# Altium footprint library Antennas.PcbLib: 16 footprints
Each footprint in its own frame and in the unit in brackets; x right, y up, seen from the top. Pads: shape width x height; smd on the part's side, far side on the other; paste and mask are expansions set on the pad; w line width, h text height; cw(c..) or ccw(c..) is an arc to the next point about the centre after c.
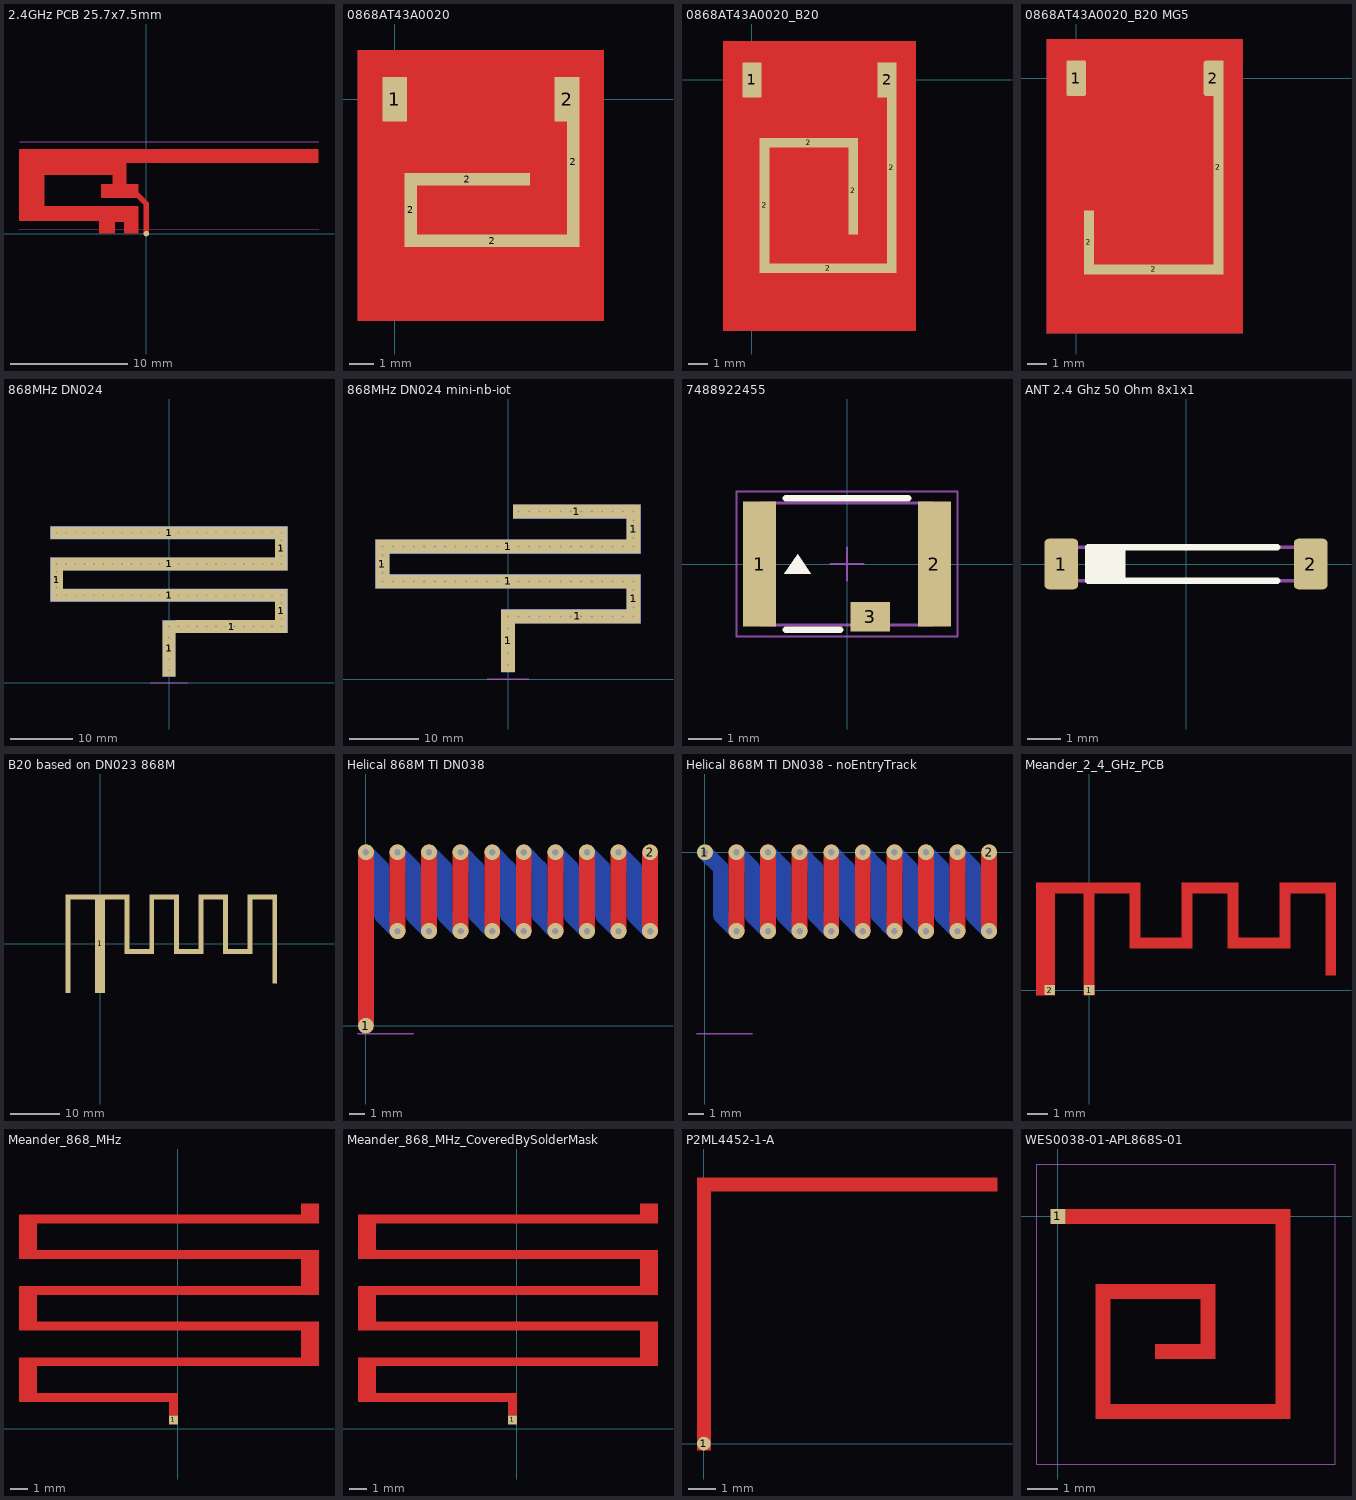
[diagram p0: the footprints below, top view; thin cyan lines are the x and y axes]

## 2.4GHz PCB 25.7x7.5mm [mm] "An Inverted F PCB antenna advised by Texas Instruments; +3.3dB; Design Note DN0007"
pads (1):
  round 0.46 smd: 1(0,0)
Top Layer:
  region: -10.736,7.103 14.589,7.103 14.589,6.128 -1.786,6.128 -1.786,4.153 -0.811,4.153 -0.811,3.128 -3.786,3.128 -3.786,4.153 -2.811,4.153 -2.811,5.128 -8.761,5.128 -8.761,2.278 -8.736,2.253 -0.686,2.253 -0.686,0.028 -1.886,0.028 -1.886,1.028 -2.686,1.028 -2.686,0.028 -4.036,0.028 -4.036,1.153 -10.736,1.153
  lines w0.2: -0.787,0.127 -0.787,2.261
  lines w0.203: -0.787,0.127 -1.787,0.127 -1.787,1.127 -2.787,1.127 -2.787,0.127 -3.937,0.127 -3.937,1.168 -10.236,1.194 -10.77,1.194 -10.77,7.137 14.63,7.137 14.63,6.127 -1.787,6.127 -1.787,4.127 -0.787,4.127 -0.787,3.127 -3.787,3.127 -3.787,4.127 -2.787,4.127 -2.787,5.127 -8.787,5.127 -8.787,2.261 -0.787,2.261
  lines w0.46: -0.854,3.375 0,2.521 0,0
Mechanical 13:
  lines w0.01: -10.886,0.347 14.764,0.353 ; -10.836,7.853 14.739,7.853
  text "Ground line" at -10.611,0.403 h0.1
  text "Board line" at -10.736,7.678 h0.1

## 0868AT43A0020 [mm] "868 MHz"
height 0.8
pads (6):
  rect 1x1.8 smd: 1(0,0) 2(7,0)
  rect 0.5x3 smd paste-5: 2(0.65,-4.5)
  rect 5.1x0.5 smd paste-5: 2(2.95,-3.25)
  rect 7.1x0.5 smd paste-5: 2(3.95,-5.75)
  rect 0.5x6.9 smd paste-5: 2(7.25,-2.55)
Top Layer:
  pour cut-out: 8.5,2 -1.5,2 -1.5,-9 8.5,-9
Bottom Layer:
  pour cut-out: -1.5,2 8.5,2 8.5,-9 -1.5,-9
3D body: height 0.8, standoff 0.6, extent 1.45,-0.212 2.8,0.213
3D body: height 0.8, standoff 0, extent 0,-1 0.5,1
3D body: height 0.8, standoff 0, extent 6.5,-1 7,1
3D body: height 0.75, standoff 0, extent 0.013,-0.981 6.975,0.981

## 0868AT43A0020_B20 [mm] "Antenna for LTE B20 and 868MHz"
height 0.8
pads (7):
  rect 1x1.8 smd: 1(0,0) 2(7,0)
  rect 0.5x7 smd paste-5: 2(0.65,-6.5)
  rect 5.1x0.5 smd paste-5: 2(2.95,-3.25)
  rect 7.1x0.5 smd paste-5: 2(3.95,-9.75)
  rect 0.5x4.5 smd paste-1 mask-1: 2(5.25,-5.75)
  rect 0.5x10.9 smd paste-5: 2(7.25,-4.55)
Top Layer:
  pour cut-out: 8.5,2 -1.5,2 -1.5,-13 8.5,-13
Bottom Layer:
  pour cut-out: -1.5,2 8.5,2 8.5,-13 -1.5,-13
Mechanical 15:
  lines w0.1: 3.2,0 3.8,0 ; 3.5,-0.3 3.5,0.3 ; -0.7,-1.1 7.7,-1.1 7.7,1.1 -0.7,1.1 -0.7,-1.1
3D body: height 0.8, standoff 0.6, extent 1.45,-0.212 2.8,0.213
3D body: height 0.8, standoff 0, extent 0,-1 0.5,1
3D body: height 0.8, standoff 0, extent 6.5,-1 7,1
3D body: height 0.75, standoff 0, extent 0.013,-0.981 6.975,0.981

## 0868AT43A0020_B20 MG5 [mm] "Antenna for LTE B20 and 868MHz"
height 0.8
pads (5):
  rrect15% 1x1.8 smd: 1(0,0)
  rect 0.5x3.25 smd paste-5: 2(0.65,-8.375)
  rect 7.1x0.5 smd paste-5: 2(3.95,-9.75)
  rrect25% 1x1.8 smd: 2(7,0)
  rect 0.5x10.9 smd paste-5: 2(7.25,-4.55)
Top Layer:
  pour cut-out: 8.5,2 -1.5,2 -1.5,-13 8.5,-13
Bottom Layer:
  pour cut-out: -1.5,2 8.5,2 8.5,-13 -1.5,-13
Mechanical 15:
  lines w0.1: 3.2,0 3.8,0 ; 3.5,-0.3 3.5,0.3 ; -0.7,-1.1 -0.7,1.1 7.7,1.1 7.7,-1.1 -0.7,-1.1
3D body: height 0.75, standoff 0, extent 0.013,-0.981 6.975,0.981
3D body: height 0.8, standoff 0, extent 6.5,-1 7,1
3D body: height 0.8, standoff 0, extent 0,-1 0.5,1
3D body: height 0.8, standoff 0.6, extent 1.45,-0.212 2.8,0.213

## 868MHz DN024 [mm] "868MHz wide band antenna 88MHz"
pads (16):
  rect 2x3 smd paste-1 mask-1: 1(-18,16.5) 1(18,11.5) 1(18,21.5)
  rect 2x3 smd far side paste-1 mask-1: 1(-18,16.5) 1(18,11.5) 1(18,21.5)
  rect 2x9 smd paste-1 mask-1: 1(0,5.5)
  rect 2x9 smd far side paste-1 mask-1: 1(0,5.5)
  rect 38x2 smd paste-1 mask-1: 1(0,14) 1(0,19) 1(0,24)
  rect 38x2 smd far side paste-1 mask-1: 1(0,14) 1(0,19) 1(0,24)
  rect 18x2 smd paste-1 mask-1: 1(10,9)
  rect 18x2 smd far side paste-1 mask-1: 1(10,9)
via 0,3.75 diameter 0.7 hole 0.3
via 0,7.25 diameter 0.7 hole 0.3
via 0,5.5 diameter 0.7 hole 0.3
via 18,10.25 diameter 0.7 hole 0.3
via 18,12.75 diameter 0.7 hole 0.3
via -18,15.25 diameter 0.7 hole 0.3
via -18,17.75 diameter 0.7 hole 0.3
via 18,20.25 diameter 0.7 hole 0.3
via 18,22.75 diameter 0.7 hole 0.3
via 18,11.5 diameter 0.7 hole 0.3
via -18,16.5 diameter 0.7 hole 0.3
via 18,21.5 diameter 0.7 hole 0.3
via 1.5,9 diameter 0.7 hole 0.3
via 3,9 diameter 0.7 hole 0.3
via 4.5,9 diameter 0.7 hole 0.3
via 6,9 diameter 0.7 hole 0.3
via 7.5,9 diameter 0.7 hole 0.3
via 9,9 diameter 0.7 hole 0.3
via 10.5,9 diameter 0.7 hole 0.3
via 12,9 diameter 0.7 hole 0.3
via 13.5,9 diameter 0.7 hole 0.3
via 15,9 diameter 0.7 hole 0.3
via 16.5,9 diameter 0.7 hole 0.3
via 16.5,14 diameter 0.7 hole 0.3
via 15,14 diameter 0.7 hole 0.3
via 13.5,14 diameter 0.7 hole 0.3
via 12,14 diameter 0.7 hole 0.3
via 10.5,14 diameter 0.7 hole 0.3
via 9,14 diameter 0.7 hole 0.3
via 7.5,14 diameter 0.7 hole 0.3
via 6,14 diameter 0.7 hole 0.3
via 4.5,14 diameter 0.7 hole 0.3
via 3,14 diameter 0.7 hole 0.3
via 1.5,14 diameter 0.7 hole 0.3
via 0,14 diameter 0.7 hole 0.3
via -1.5,14 diameter 0.7 hole 0.3
via -3,14 diameter 0.7 hole 0.3
via -4.5,14 diameter 0.7 hole 0.3
via -6,14 diameter 0.7 hole 0.3
via -7.5,14 diameter 0.7 hole 0.3
via -9,14 diameter 0.7 hole 0.3
via -10.5,14 diameter 0.7 hole 0.3
via -12,14 diameter 0.7 hole 0.3
via -13.5,14 diameter 0.7 hole 0.3
via -15,14 diameter 0.7 hole 0.3
via -16.5,14 diameter 0.7 hole 0.3
via 16.5,19 diameter 0.7 hole 0.3
via 15,19 diameter 0.7 hole 0.3
via 13.5,19 diameter 0.7 hole 0.3
via 12,19 diameter 0.7 hole 0.3
via 10.5,19 diameter 0.7 hole 0.3
via 9,19 diameter 0.7 hole 0.3
via 7.5,19 diameter 0.7 hole 0.3
via 6,19 diameter 0.7 hole 0.3
via 4.5,19 diameter 0.7 hole 0.3
via 3,19 diameter 0.7 hole 0.3
via 1.5,19 diameter 0.7 hole 0.3
via 0,19 diameter 0.7 hole 0.3
via -1.5,19 diameter 0.7 hole 0.3
via -3,19 diameter 0.7 hole 0.3
via -4.5,19 diameter 0.7 hole 0.3
via -6,19 diameter 0.7 hole 0.3
via -7.5,19 diameter 0.7 hole 0.3
via -9,19 diameter 0.7 hole 0.3
via -10.5,19 diameter 0.7 hole 0.3
via -12,19 diameter 0.7 hole 0.3
via -13.5,19 diameter 0.7 hole 0.3
via -15,19 diameter 0.7 hole 0.3
via -16.5,19 diameter 0.7 hole 0.3
via 16.5,24 diameter 0.7 hole 0.3
via 15,24 diameter 0.7 hole 0.3
via 13.5,24 diameter 0.7 hole 0.3
via 12,24 diameter 0.7 hole 0.3
via 10.5,24 diameter 0.7 hole 0.3
via 9,24 diameter 0.7 hole 0.3
via 7.5,24 diameter 0.7 hole 0.3
via 6,24 diameter 0.7 hole 0.3
via 4.5,24 diameter 0.7 hole 0.3
via 3,24 diameter 0.7 hole 0.3
via 1.5,24 diameter 0.7 hole 0.3
via 0,24 diameter 0.7 hole 0.3
via -1.5,24 diameter 0.7 hole 0.3
via -3,24 diameter 0.7 hole 0.3
via -4.5,24 diameter 0.7 hole 0.3
via -6,24 diameter 0.7 hole 0.3
via -7.5,24 diameter 0.7 hole 0.3
via -9,24 diameter 0.7 hole 0.3
via -10.5,24 diameter 0.7 hole 0.3
via -12,24 diameter 0.7 hole 0.3
via -13.5,24 diameter 0.7 hole 0.3
via -15,24 diameter 0.7 hole 0.3
via -16.5,24 diameter 0.7 hole 0.3
via 0,2 diameter 0.7 hole 0.3
via -18,24 diameter 0.7 hole 0.3
via 18,24 diameter 0.7 hole 0.3
via 18,19 diameter 0.7 hole 0.3
via -18,19 diameter 0.7 hole 0.3
via -18,14 diameter 0.7 hole 0.3
via 18,14 diameter 0.7 hole 0.3
via 18,9 diameter 0.7 hole 0.3
via 0,9 diameter 0.7 hole 0.3
Mechanical 13:
  lines w0.2: -3,0 3,0
  text "gnd edge" at 2,1 h0.6

## 868MHz DN024 mini-nb-iot [mm] "868MHz wide band antenna 88MHz, cut for mini-nb-iot device"
pads (16):
  rect 2x3 smd paste-1 mask-1: 1(-18,16.5) 1(18,11.5) 1(18,21.5)
  rect 2x3 smd far side paste-1 mask-1: 1(-18,16.5) 1(18,11.5) 1(18,21.5)
  rect 2x9 smd paste-1 mask-1: 1(0,5.5)
  rect 2x9 smd far side paste-1 mask-1: 1(0,5.5)
  rect 38x2 smd paste-1 mask-1: 1(0,14) 1(0,19)
  rect 38x2 smd far side paste-1 mask-1: 1(0,14) 1(0,19)
  rect 18.25x2 smd paste-1 mask-1: 1(9.875,24)
  rect 18.25x2 smd far side paste-1 mask-1: 1(9.875,24)
  rect 18x2 smd paste-1 mask-1: 1(10,9)
  rect 18x2 smd far side paste-1 mask-1: 1(10,9)
via 0,9 diameter 0.7 hole 0.3
via 18,9 diameter 0.7 hole 0.3
via 18,14 diameter 0.7 hole 0.3
via -18,14 diameter 0.7 hole 0.3
via -18,19 diameter 0.7 hole 0.3
via 18,19 diameter 0.7 hole 0.3
via 18,24 diameter 0.7 hole 0.3
via 0,2 diameter 0.7 hole 0.3
via 1.5,24 diameter 0.7 hole 0.3
via 3,24 diameter 0.7 hole 0.3
via 4.5,24 diameter 0.7 hole 0.3
via 6,24 diameter 0.7 hole 0.3
via 7.5,24 diameter 0.7 hole 0.3
via 9,24 diameter 0.7 hole 0.3
via 10.5,24 diameter 0.7 hole 0.3
via 12,24 diameter 0.7 hole 0.3
via 13.5,24 diameter 0.7 hole 0.3
via 15,24 diameter 0.7 hole 0.3
via 16.5,24 diameter 0.7 hole 0.3
via -16.5,19 diameter 0.7 hole 0.3
via -15,19 diameter 0.7 hole 0.3
via -13.5,19 diameter 0.7 hole 0.3
via -12,19 diameter 0.7 hole 0.3
via -10.5,19 diameter 0.7 hole 0.3
via -9,19 diameter 0.7 hole 0.3
via -7.5,19 diameter 0.7 hole 0.3
via -6,19 diameter 0.7 hole 0.3
via -4.5,19 diameter 0.7 hole 0.3
via -3,19 diameter 0.7 hole 0.3
via -1.5,19 diameter 0.7 hole 0.3
via 0,19 diameter 0.7 hole 0.3
via 1.5,19 diameter 0.7 hole 0.3
via 3,19 diameter 0.7 hole 0.3
via 4.5,19 diameter 0.7 hole 0.3
via 6,19 diameter 0.7 hole 0.3
via 7.5,19 diameter 0.7 hole 0.3
via 9,19 diameter 0.7 hole 0.3
via 10.5,19 diameter 0.7 hole 0.3
via 12,19 diameter 0.7 hole 0.3
via 13.5,19 diameter 0.7 hole 0.3
via 15,19 diameter 0.7 hole 0.3
via 16.5,19 diameter 0.7 hole 0.3
via -16.5,14 diameter 0.7 hole 0.3
via -15,14 diameter 0.7 hole 0.3
via -13.5,14 diameter 0.7 hole 0.3
via -12,14 diameter 0.7 hole 0.3
via -10.5,14 diameter 0.7 hole 0.3
via -9,14 diameter 0.7 hole 0.3
via -7.5,14 diameter 0.7 hole 0.3
via -6,14 diameter 0.7 hole 0.3
via -4.5,14 diameter 0.7 hole 0.3
via -3,14 diameter 0.7 hole 0.3
via -1.5,14 diameter 0.7 hole 0.3
via 0,14 diameter 0.7 hole 0.3
via 1.5,14 diameter 0.7 hole 0.3
via 3,14 diameter 0.7 hole 0.3
via 4.5,14 diameter 0.7 hole 0.3
via 6,14 diameter 0.7 hole 0.3
via 7.5,14 diameter 0.7 hole 0.3
via 9,14 diameter 0.7 hole 0.3
via 10.5,14 diameter 0.7 hole 0.3
via 12,14 diameter 0.7 hole 0.3
via 13.5,14 diameter 0.7 hole 0.3
via 15,14 diameter 0.7 hole 0.3
via 16.5,14 diameter 0.7 hole 0.3
via 16.5,9 diameter 0.7 hole 0.3
via 15,9 diameter 0.7 hole 0.3
via 13.5,9 diameter 0.7 hole 0.3
via 12,9 diameter 0.7 hole 0.3
via 10.5,9 diameter 0.7 hole 0.3
via 9,9 diameter 0.7 hole 0.3
via 7.5,9 diameter 0.7 hole 0.3
via 6,9 diameter 0.7 hole 0.3
via 4.5,9 diameter 0.7 hole 0.3
via 3,9 diameter 0.7 hole 0.3
via 1.5,9 diameter 0.7 hole 0.3
via 18,21.5 diameter 0.7 hole 0.3
via -18,16.5 diameter 0.7 hole 0.3
via 18,11.5 diameter 0.7 hole 0.3
via 18,22.75 diameter 0.7 hole 0.3
via 18,20.25 diameter 0.7 hole 0.3
via -18,17.75 diameter 0.7 hole 0.3
via -18,15.25 diameter 0.7 hole 0.3
via 18,12.75 diameter 0.7 hole 0.3
via 18,10.25 diameter 0.7 hole 0.3
via 0,5.5 diameter 0.7 hole 0.3
via 0,7.25 diameter 0.7 hole 0.3
via 0,3.75 diameter 0.7 hole 0.3
Mechanical 13:
  lines w0.2: -3,0 3,0
  text "gnd edge" at 2,1 h0.6

## 7488922455 [mm] "Chip antenna 2.4 and 5GHz AC"
height 0.7
pads (3):
  rect 1x3.8 smd: 1(-2.65,0) 2(2.65,0)
  rect 1.2x0.9 smd: 3(0.7,-1.6)
Top Overlay:
  region: -1.5,0.3 -1.9,-0.3 -1.1,-0.3
  lines w0.2: -1.85,-2 -0.2,-2 ; -1.85,2 1.85,2
Mechanical 11:
  region: -1.5,0.3 -1.9,-0.3 -1.1,-0.3
  lines w0.1: -2.6,-1.85 -2.6,1.85 2.6,1.85 2.6,-1.85 -2.6,-1.85
Mechanical 13:
  region: -1.5,0.3 -1.9,-0.3 -1.1,-0.3
  lines w0.1: -2.6,-1.85 2.6,-1.85 2.6,1.85 -2.6,1.85 -2.6,-1.85
Mechanical 15:
  lines w0.05: -0.5,0 0.5,0 ; 0,-0.5 0,0.5 ; -3.35,-2.2 -3.35,2.2 3.35,2.2 3.35,-2.2 -3.35,-2.2
3D body: height 0.7, standoff 0, extent -2.6,-1.85 2.6,1.85

## ANT 2.4 Ghz 50 Ohm 8x1x1 [mm] "ANT 2.4 Ghz 50 Ohm 8x1x1"
height 1
pads (2):
  rrect25% 1x1.5 smd: 1(-3.7,0) 2(3.7,0)
Top Overlay:
  lines w0.2: -2.9,-0.3 -1.9,-0.3 ; -2.9,-0.1 -1.9,-0.1 ; -2.9,0.1 -1.9,0.1 ; -2.9,0.3 -1.9,0.3 ; -2.7,-0.5 2.7,-0.5 ; -2.7,0.5 2.7,0.5 ; -2.9,-0.5 -1.9,-0.5 -1.9,0.5 -2.9,0.5 -2.9,-0.5
Mechanical 15:
  lines w0.1: -4,-0.5 -4,0.5 4,0.5 4,-0.5 -4,-0.5
3D body: height 1, standoff 0, extent -4,-0.5 4,0.5

## B20 based on DN023 868M [mm] "B20 based on DN023 868M"
pads (17):
  rect 5x1 smd paste-1 mask-1: 1(-3.5,9.5)
  rect 2x20 smd paste-1 mask-1: 1(0,0)
  rect 4x1 smd paste-1 mask-1: 1(3,9.5) 1(8,-1.5) 1(13,9.5) 1(18,-1.5) 1(23,9.5) 1(28,-1.5) 1(33,9.5)
  rect 1x12 smd paste-1 mask-1: 1(5.5,4) 1(10.5,4) 1(15.5,4) 1(20.5,4) 1(25.5,4) 1(30.5,4)
  rect 1x18 smd paste-1 mask-1: 1(35.5,1)
  rect 1x20 smd paste-1 mask-1: 2(-6.5,0)

## Helical 868M TI DN038 [mm]
pads (2):
  round 1 smd paste-1: 1(0,0) 2(18,11)
via 8,6 diameter 1 hole 0.4
via 10,6 diameter 1 hole 0.4
via 12,6 diameter 1 hole 0.4
via 14,6 diameter 1 hole 0.4
via 16,6 diameter 1 hole 0.4
via 18,6 diameter 1 hole 0.4
via 16,11 diameter 1 hole 0.4
via 14,11 diameter 1 hole 0.4
via 12,11 diameter 1 hole 0.4
via 10,11 diameter 1 hole 0.4
via 8,11 diameter 1 hole 0.4
via 6,11 diameter 1 hole 0.4
via 6,6 diameter 1 hole 0.4
via 4,11 diameter 1 hole 0.4
via 4,6 diameter 1 hole 0.4
via 2,11 diameter 1 hole 0.4
via 2,6 diameter 1 hole 0.4
via 0,11 diameter 1 hole 0.4
Top Layer:
  lines w1: 0,0 0,11 ; 2,6 2,11 ; 4,6 4,11 ; 6,6 6,11 ; 8,6 8,11 ; 10,6 10,11 ; 12,6 12,11 ; 14,6 14,11 ; 16,6 16,11 ; 18,6 18,11
Bottom Layer:
  lines w1: 0,11 1,10 1,7 2,6 ; 4,6 3,7 3,10 2,11 ; 4,11 5,10 5,7 6,6 ; 6,11 7,10 7,7 8,6 ; 8,11 9,10 9,7 10,6 ; 10,11 11,10 11,7 12,6 ; 12,11 13,10 13,7 14,6 ; 14,11 15,10 15,7 16,6 ; 16,11 17,10 17,7 18,6 ; 2,11 2,11
Mechanical 13:
  lines w0.1: -0.5,-0.5 3,-0.5
  text "GND edge" at 1,0 h0.6

## Helical 868M TI DN038 - noEntryTrack [mm]
pads (2):
  round 1 smd paste-1: 1(0,0) 2(18,0)
via 0,0 diameter 1 hole 0.4
via 2,-5 diameter 1 hole 0.4
via 2,0 diameter 1 hole 0.4
via 4,-5 diameter 1 hole 0.4
via 4,0 diameter 1 hole 0.4
via 6,-5 diameter 1 hole 0.4
via 6,0 diameter 1 hole 0.4
via 8,0 diameter 1 hole 0.4
via 10,0 diameter 1 hole 0.4
via 12,0 diameter 1 hole 0.4
via 14,0 diameter 1 hole 0.4
via 16,0 diameter 1 hole 0.4
via 18,-5 diameter 1 hole 0.4
via 16,-5 diameter 1 hole 0.4
via 14,-5 diameter 1 hole 0.4
via 12,-5 diameter 1 hole 0.4
via 10,-5 diameter 1 hole 0.4
via 8,-5 diameter 1 hole 0.4
Top Layer:
  lines w1: 2,-5 2,0 ; 4,-5 4,0 ; 6,-5 6,0 ; 8,-5 8,0 ; 10,-5 10,0 ; 12,-5 12,0 ; 14,-5 14,0 ; 16,-5 16,0 ; 18,-5 18,0
Bottom Layer:
  lines w1: 0,0 1,-1 1,-4 2,-5 ; 4,-5 3,-4 3,-1 2,0 ; 4,0 5,-1 5,-4 6,-5 ; 6,0 7,-1 7,-4 8,-5 ; 8,0 9,-1 9,-4 10,-5 ; 10,0 11,-1 11,-4 12,-5 ; 12,0 13,-1 13,-4 14,-5 ; 14,0 15,-1 15,-4 16,-5 ; 16,0 17,-1 17,-4 18,-5 ; 2,0 2,0
Mechanical 13:
  lines w0.1: -0.5,-11.5 3,-11.5
  text "GND edge" at 1,-11 h0.6

## Meander_2_4_GHz_PCB [mm]
pads (2):
  rect 0.5x0.5 smd: 1(0,0) 2(-1.9,0)
Top Layer:
  region: 0.25,-0.25 0.25,4.65 1.95,4.65 1.95,2.01 4.95,2.01 4.95,4.65 6.65,4.65 6.65,2.01 9.65,2.01 9.65,4.65 11.35,4.65 11.35,0.71 11.85,0.71 11.85,5.15 9.15,5.15 9.15,2.51 7.15,2.51 7.15,5.15 4.45,5.15 4.45,2.51 2.45,2.51 2.45,5.15 -2.55,5.15 -2.55,-0.25 -1.65,-0.25 -1.65,4.65 -0.25,4.65 -0.25,-0.25

## Meander_868_MHz [mm] "Meander_868_MHz"
pads (1):
  rect 0.5x0.5 smd: 1(-0.25,0.5)
Top Layer:
  rectangle: -0.5,0.75 0,2
  rectangle: -8.9,1.5 0,2
  rectangle: -8.9,1.5 -7.9,4
  rectangle: -8.9,3.5 7.9,4
  rectangle: 6.9,3.5 7.9,6
  rectangle: -8.9,5.5 7.8,6
  rectangle: -8.9,7.5 7.9,8
  rectangle: -8.9,9.5 7.9,10
  rectangle: -8.9,11.5 7.9,12
  rectangle: -8.9,5.5 -7.9,8
  rectangle: 6.9,7.5 7.9,10
  rectangle: -8.9,9.5 -7.9,12
  rectangle: 6.9,11.5 7.9,12.6
Top Solder:
  rectangle: 6.9,11.5 7.9,12.6
  rectangle: -8.9,11.5 7.9,12
  rectangle: -8.9,9.5 7.9,10
  rectangle: -8.9,9.5 -7.9,12
  rectangle: 6.9,7.5 7.9,10
  rectangle: -8.9,7.5 7.9,8
  rectangle: -8.9,5.5 -7.9,8
  rectangle: -0.5,0.85 0,2
  rectangle: -8.9,1.5 0,2
  rectangle: -8.9,1.5 -7.9,4
  rectangle: -8.9,3.5 7.9,4
  rectangle: -8.9,5.5 7.8,6
  rectangle: 6.9,3.5 7.9,6

## Meander_868_MHz_CoveredBySolderMask [mm] "Meander_868_MHz"
pads (1):
  rect 0.5x0.5 smd paste-1: 1(-0.25,0.5)
Top Layer:
  rectangle: 6.9,11.5 7.9,12.6
  rectangle: -8.9,9.5 -7.9,12
  rectangle: 6.9,7.5 7.9,10
  rectangle: -8.9,5.5 -7.9,8
  rectangle: -8.9,11.5 7.9,12
  rectangle: -8.9,9.5 7.9,10
  rectangle: -8.9,7.5 7.9,8
  rectangle: -8.9,5.5 7.8,6
  rectangle: 6.9,3.5 7.9,6
  rectangle: -8.9,3.5 7.9,4
  rectangle: -8.9,1.5 -7.9,4
  rectangle: -8.9,1.5 0,2
  rectangle: -0.5,0.75 0,2

## P2ML4452-1-A [mm] "Murata 2.4 GHz Wifi BT antenna"
pads (1):
  round 0.5 smd: 1(0,0)
Top Layer:
  region: 0.25,4.75 0.25,-0.25 -0.25,-0.25 -0.25,4.75 -0.25,9.75 10.75,9.75 10.75,9.25 0.25,9.25

## WES0038-01-APL868S-01 [mm] "868MHz"
pads (1):
  rect 0.5x0.5 smd paste-1 mask-1: 1(0,0)
Top Layer:
  rectangle: 3.25,-4.75 5.25,-4.25
  rectangle: 4.75,-4.75 5.25,-2.25
  rectangle: 0.25,-0.25 7.75,0.25
  rectangle: 7.25,-6.75 7.75,0.25
  rectangle: 1.25,-6.75 7.75,-6.25
  rectangle: 1.25,-6.75 1.75,-2.25
  rectangle: 1.25,-2.75 5.25,-2.25
Mechanical 13:
  lines w0.01: 0.25,-8.25 9.25,-8.25 9.25,-6.75 ; 1.25,-8.25 -0.7,-8.25 -0.7,-2.7 -0.7,1.75 0.25,1.75 9.25,1.75 9.25,-7.25
  text "PCB edge/GND" at 1.75,1.75 h0.4